# EAGLE library part GE_CHIPCAP_2 (library cTechnologies_sensors)
ChipCap 2 A Fully Calibrated Humidity and Temperature Sensor
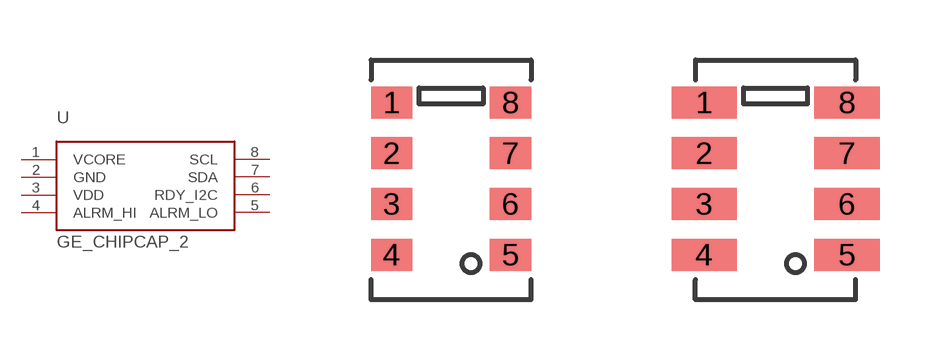
[diagram p0: symbol with the pads of GE_CC2; footprints GE_CC2, GE_CC2_P]

Designator prefix -

## GE_CHIPCAP_2NORMAL  [GE_CC2]
1  VCORE
2  GND
3  VDD
4  ALRM_HI
5  ALRM_LO
6  RDY_I2C
7  SDA
8  SCL

## GE_CHIPCAP_2WIDER  [GE_CC2_P]
Pads as for GE_CC2

## Footprint GE_CC2 (pad centres in mm)
smd 1.03 x 0.8: 1 -1.485,1.935; 2 -1.485,0.665; 3 -1.485,-0.605; 4 -1.485,-1.875; 5 1.485,-1.875; 6 1.485,-0.605; 7 1.485,0.665; 8 1.485,1.935

## Footprint GE_CC2_P (pad centres in mm)
smd 1.63 x 0.8: 1 -1.785,1.935; 2 -1.785,0.665; 3 -1.785,-0.605; 4 -1.785,-1.875; 5 1.785,-1.875; 6 1.785,-0.605; 7 1.785,0.665; 8 1.785,1.935